# Altium schematic symbol library COMMON_MODE_CHOCKE.SchLib: 1 symbol
Pins are listed as number, name and electrical type; pins without a type are passive.

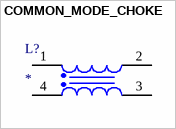
[diagram p0: symbol COMMON_MODE_CHOKE]

## COMMON_MODE_CHOKE
designator L?
Value: *
pins: 1, 2, 3, 4